# Altium footprint library PcbLib1.PcbLib: 13 footprints
Each footprint in its own frame and in the unit in brackets; x right, y up, seen from the top. Pads: shape width x height; smd on the part's side, far side on the other; paste and mask are expansions set on the pad; w line width, h text height; cw(c..) or ccw(c..) is an arc to the next point about the centre after c.
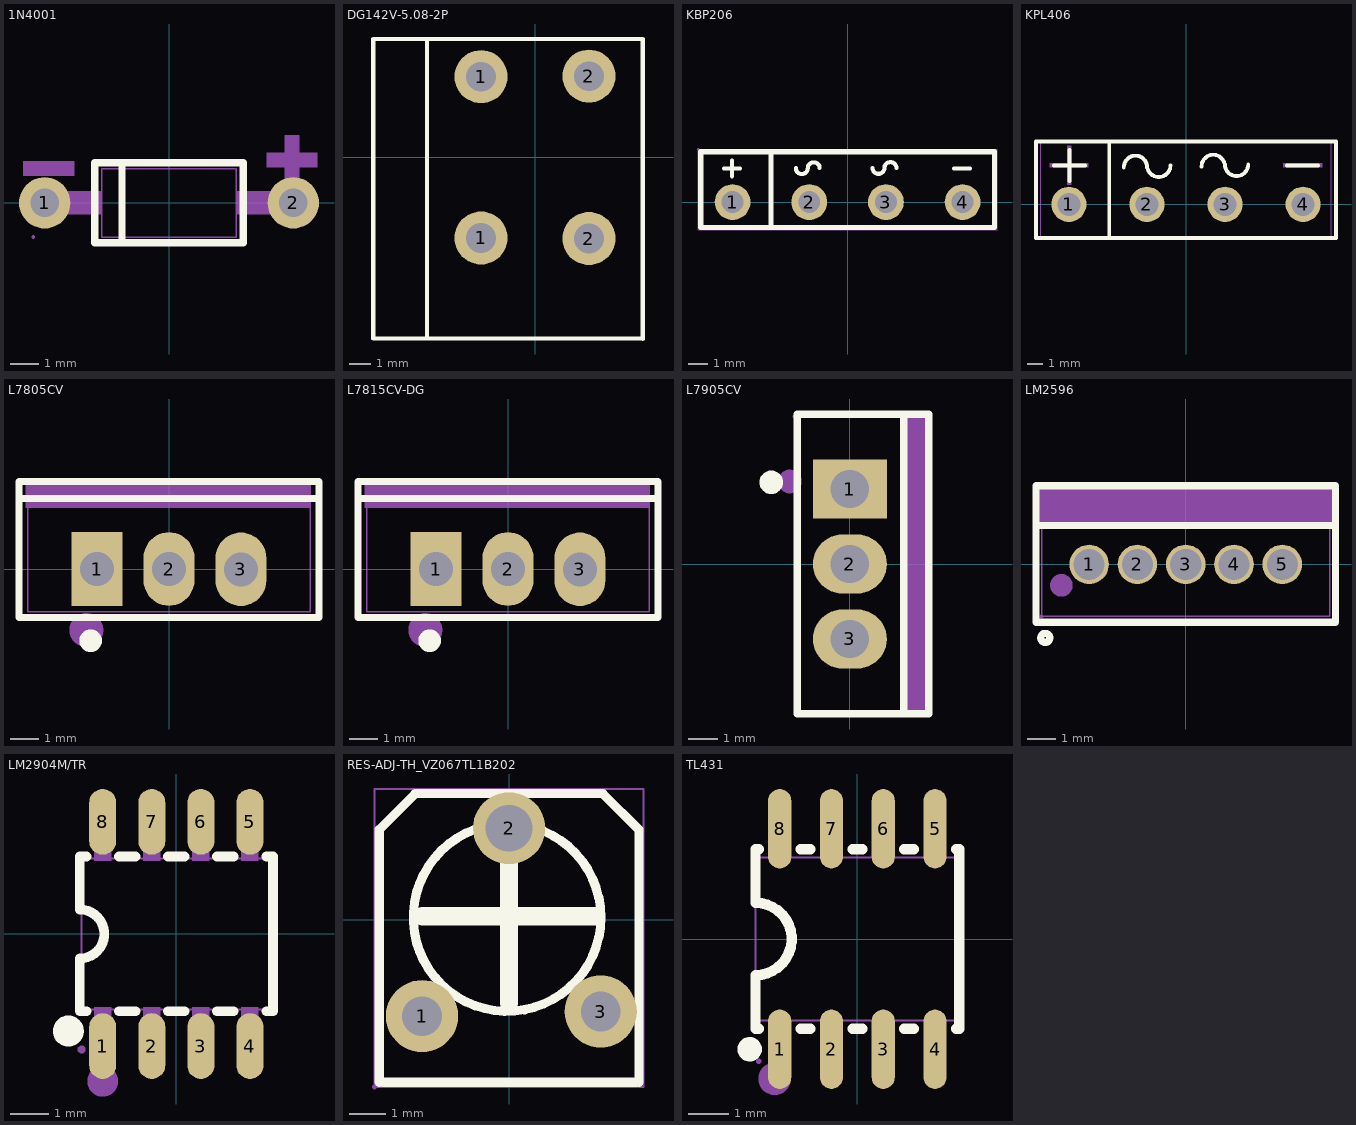
[diagram p0: the footprints below, top view; thin cyan lines are the x and y axes]

## 1N4001 [mm]
pads (2):
  round 1.8 hole 1 paste+0 mask+0.051: 1(-4.35,0) 2(4.35,0)
Top Overlay:
  lines w0.254: -1.641,-1.4 -1.641,1.4 ; -2.6,-1.4 -2.6,1.4 2.6,1.4 2.6,-1.4 -2.6,-1.4
Mechanical 6:
  region: -5.102,1.451 -3.324,1.451 -3.324,0.943 -5.102,0.943
  region: 4.045,0.593 4.045,2.371 4.553,2.371 4.553,0.593
  region: 3.415,1.759 5.193,1.759 5.193,1.251 3.415,1.251
Mechanical 15:
  region: -2.34,0.4 -2.34,-0.4 -4.75,-0.4 -4.75,0.4
  region: 2.34,-0.4 2.34,0.4 4.75,0.4 4.75,-0.4
  region: -3.95,0 -3.95,0.08 -4.011,0.227 -4.123,0.339 -4.27,0.4 -4.43,0.4 -4.577,0.339 -4.689,0.227 -4.75,0.08 -4.75,0 -4.75,-0.08 -4.689,-0.227 -4.577,-0.339 -4.43,-0.4 -4.27,-0.4 -4.123,-0.339 -4.011,-0.227 -3.95,-0.08
  region: 4.75,0 4.75,0.08 4.689,0.227 4.577,0.339 4.43,0.4 4.27,0.4 4.123,0.339 4.011,0.227 3.95,0.08 3.95,0 3.95,-0.08 4.011,-0.227 4.123,-0.339 4.27,-0.4 4.43,-0.4 4.577,-0.339 4.689,-0.227 4.75,-0.08
  region: -4.69,-1.2 -4.69,-1.175 -4.725,-1.14 -4.775,-1.14 -4.81,-1.175 -4.81,-1.2 -4.81,-1.225 -4.775,-1.26 -4.725,-1.26 -4.69,-1.225
  lines w0.051: -2.35,-1.2 2.35,-1.2 2.35,1.2 -2.35,1.2 -2.35,-1.2

## DG142V-5.08-2P [mm]
pads (4):
  round 2.5 hole 1.4: 1(-2.54,-3.797) 1(-2.54,3.797) 2(2.54,-3.823) 2(2.54,3.823)
Top Overlay:
  lines w0.2: -7.622,5.571 -7.622,-8.529 -5.113,-8.529 -5.082,-8.498 -5.082,5.571 ; -7.601,5.571 -5.082,5.571 ; 5.078,-8.555 5.078,5.545 ; 5.078,-8.529 -5.082,-8.529 -5.082,5.571 ; 5.078,5.571 -5.082,5.571

## KBP206 [mm]
pads (4):
  round 1.8 hole 1.1 paste+0 mask+0.051: 1(-5.775,0) 2(-1.925,0) 3(1.925,0) 4(5.775,0)
Top Overlay:
  lines w0.203: -6.2,1.7 -5.4,1.7 ; -5.8,1.3 -5.8,2.1 ; -2.601,1.709 ccw(c-2.3,1.709) -1.999,1.709 cw(c-1.699,1.696) -1.399,1.709 ; 1.25,1.709 ccw(c1.55,1.722) 1.849,1.709 cw(c2.15,1.709) 2.451,1.709 ; 5.35,1.7 6.15,1.7
  lines w0.254: -3.85,-1.27 -3.85,2.53 ; -7.375,-1.27 -7.375,2.53 7.375,2.53 7.375,-1.27 -7.375,-1.27
Mechanical 15:
  region: -5.325,0 -5.325,0.089 -5.393,0.255 -5.52,0.381 -5.685,0.45 -5.864,0.45 -6.03,0.381 -6.156,0.255 -6.225,0.089 -6.225,0 -6.225,-0.09 -6.156,-0.255 -6.03,-0.382 -5.864,-0.45 -5.685,-0.45 -5.52,-0.382 -5.393,-0.255 -5.325,-0.09
  region: -1.475,0 -1.475,0.089 -1.544,0.255 -1.67,0.381 -1.836,0.45 -2.015,0.45 -2.18,0.381 -2.307,0.255 -2.375,0.089 -2.375,0 -2.375,-0.09 -2.307,-0.255 -2.18,-0.382 -2.015,-0.45 -1.836,-0.45 -1.67,-0.382 -1.544,-0.255 -1.475,-0.09
  region: 6.225,0 6.225,0.089 6.156,0.255 6.03,0.381 5.865,0.45 5.685,0.45 5.52,0.381 5.394,0.255 5.325,0.089 5.325,0 5.325,-0.09 5.394,-0.255 5.52,-0.382 5.685,-0.45 5.865,-0.45 6.03,-0.382 6.156,-0.255 6.225,-0.09
  region: 2.375,0 2.375,0.089 2.307,0.255 2.18,0.381 2.015,0.45 1.836,0.45 1.67,0.381 1.544,0.255 1.475,0.089 1.475,0 1.475,-0.09 1.544,-0.255 1.67,-0.382 1.836,-0.45 2.015,-0.45 2.18,-0.382 2.307,-0.255 2.375,-0.09
  region: -7.442,2.657 -7.442,2.682 -7.477,2.717 -7.527,2.717 -7.562,2.682 -7.562,2.657 -7.562,2.632 -7.527,2.597 -7.477,2.597 -7.442,2.632
  lines w0.051: -7.502,-1.397 7.502,-1.397 7.502,2.657 -7.502,2.657 -7.502,-1.397

## KPL406 [mm]
pads (4):
  round 2.3 hole 1.5 paste+0 mask+0.051: 1(-7.65,0) 2(-2.55,0) 3(2.55,0) 4(7.65,0)
Top Overlay:
  lines w0.254: -8.636,2.54 -6.604,2.54 ; -7.62,1.524 -7.62,3.556 ; -5.016,-2.2 -5.016,4.1 ; -4.064,2.413 cw(c-3.302,2.413) -2.54,2.413 ; -2.54,2.54 ccw(c-1.778,2.54) -1.016,2.54 ; 1.016,2.476 cw(c1.778,2.476) 2.54,2.476 ; 2.54,2.603 ccw(c3.302,2.603) 4.064,2.603 ; 6.604,2.54 8.636,2.54 ; -9.8,-2.2 -9.8,4.1 9.8,4.1 9.8,-2.2 -9.8,-2.2
Mechanical 6:
  region: -7.764,1.291 -7.764,3.831 -7.51,3.831 -7.51,1.291
  region: -8.916,2.682 -6.376,2.682 -6.376,2.428 -8.916,2.428
  region: 6.35,2.667 8.89,2.667 8.89,2.413 6.35,2.413
Mechanical 15:
  region: -7.03,0 -7.03,0.123 -7.124,0.351 -7.299,0.526 -7.527,0.62 -7.773,0.62 -8.001,0.526 -8.176,0.351 -8.27,0.123 -8.27,0 -8.27,-0.123 -8.176,-0.351 -8.001,-0.526 -7.773,-0.62 -7.527,-0.62 -7.299,-0.526 -7.124,-0.351 -7.03,-0.123
  region: -1.93,0 -1.93,0.123 -2.024,0.351 -2.199,0.526 -2.427,0.62 -2.673,0.62 -2.901,0.526 -3.076,0.351 -3.17,0.123 -3.17,0 -3.17,-0.123 -3.076,-0.351 -2.901,-0.526 -2.673,-0.62 -2.427,-0.62 -2.199,-0.526 -2.024,-0.351 -1.93,-0.123
  region: 3.17,0 3.17,0.123 3.076,0.351 2.901,0.526 2.673,0.62 2.427,0.62 2.199,0.526 2.024,0.351 1.93,0.123 1.93,0 1.93,-0.123 2.024,-0.351 2.199,-0.526 2.427,-0.62 2.673,-0.62 2.901,-0.526 3.076,-0.351 3.17,-0.123
  region: 8.27,0 8.27,0.123 8.176,0.351 8.001,0.526 7.773,0.62 7.527,0.62 7.299,0.526 7.124,0.351 7.03,0.123 7.03,0 7.03,-0.123 7.124,-0.351 7.299,-0.526 7.527,-0.62 7.773,-0.62 8.001,-0.526 8.176,-0.351 8.27,-0.123
  region: -9.44,-2.1 -9.44,-2.075 -9.475,-2.04 -9.525,-2.04 -9.56,-2.075 -9.56,-2.1 -9.56,-2.125 -9.525,-2.16 -9.475,-2.16 -9.44,-2.125
  lines w0.051: -9.5,-2.1 -9.5,4.2 9.5,4.2 9.5,-2.1 -9.5,-2.1

## L7805CV [mm]
pads (3):
  rect 1.8x2.6 hole 1.2 paste+0 mask+0.051: 1(-2.54,0.005)
  oval 1.8x2.6 hole 1.2 paste+0 mask+0.051: 2(0,0.005)
  oval 1.8x2.6 hole 1.2 copper offset 0,0 paste+0 mask+0.051: 3(2.54,-0.005)
Top Overlay:
  lines w0.254: -5.3,2.495 5.3,2.495 ; -5.301,-1.704 -5.301,3.089 -5.301,3.094 5.301,3.094 5.301,-1.704 -5.301,-1.704
  lines w0.4: -2.77,-2.33 ccw(c-2.769,-2.53) -2.768,-2.33
Mechanical 6:
  circle w0.6: c-2.921,-2.154 r0.3
  region: -5.06,3.01 -5.06,2.17 4.99,2.17 4.99,3.01
Mechanical 15:
  region: 2.19,-0.33 2.19,0.32 2.89,0.32 2.89,-0.33
  region: -0.35,-0.32 -0.35,0.33 0.35,0.33 0.35,-0.32
  region: -2.89,-0.32 -2.89,0.33 -2.19,0.33 -2.19,-0.32
  region: -4.94,3 -4.94,3.025 -4.975,3.06 -5.025,3.06 -5.06,3.025 -5.06,3 -5.06,2.975 -5.025,2.94 -4.975,2.94 -4.94,2.975
  lines w0.051: -5,-1.5 5,-1.5 5,3 -5,3 -5,-1.5

## L7815CV-DG [mm]
pads (3):
  rect 1.8x2.6 hole 1.2 paste+0 mask+0.051: 1(-2.54,0.005)
  oval 1.8x2.6 hole 1.2 paste+0 mask+0.051: 2(0,0.005)
  oval 1.8x2.6 hole 1.2 copper offset 0,0 paste+0 mask+0.051: 3(2.54,-0.005)
Top Overlay:
  lines w0.254: -5.3,2.495 5.3,2.495 ; -5.301,-1.704 5.301,-1.704 5.301,3.094 -5.301,3.094 -5.301,3.089 -5.301,-1.704
  lines w0.4: -2.77,-2.33 ccw(c-2.769,-2.53) -2.768,-2.33
Mechanical 6:
  circle w0.6: c-2.921,-2.154 r0.3
  region: -5.06,3.01 -5.06,2.17 4.99,2.17 4.99,3.01
Mechanical 15:
  region: -4.94,3 -4.94,3.025 -4.975,3.06 -5.025,3.06 -5.06,3.025 -5.06,3 -5.06,2.975 -5.025,2.94 -4.975,2.94 -4.94,2.975
  region: -2.89,-0.32 -2.89,0.33 -2.19,0.33 -2.19,-0.32
  region: -0.35,-0.32 -0.35,0.33 0.35,0.33 0.35,-0.32
  region: 2.19,-0.33 2.19,0.32 2.89,0.32 2.89,-0.33
  lines w0.051: -5,-1.5 -5,3 5,3 5,-1.5 -5,-1.5

## L7905CV [mm]
pads (3):
  rect 2.5x2 hole 1.3 paste+0 mask+0.051: 1(0,2.54)
  oval 2.5x2 hole 1.3 paste+0 mask+0.051: 2(0,0) 3(0,-2.54)
Top Overlay:
  lines w0.254: 1.83,-5.08 1.83,5.08 ; -1.778,-5.08 -1.778,5.08 2.667,5.08 2.667,-5.08 -1.778,-5.08
  lines w0.4: -2.464,2.766 cw(c-2.664,2.767) -2.464,2.769
Mechanical 6:
  circle w0.4: c-2.032,2.794 r0.2
  region: 1.778,5.08 2.667,5.08 2.667,-5.08 1.778,-5.08
Mechanical 15:
  region: -1.81,5 -1.81,5.025 -1.845,5.06 -1.895,5.06 -1.93,5.025 -1.93,5 -1.93,4.975 -1.895,4.94 -1.845,4.94 -1.81,4.975
  region: 0.3,2.17 -0.3,2.17 -0.3,2.91 0.3,2.91
  region: 0.3,-0.37 -0.3,-0.37 -0.3,0.37 0.3,0.37
  region: 0.3,-2.91 -0.3,-2.91 -0.3,-2.17 0.3,-2.17
  lines w0.051: -1.87,-5 -1.87,5 2.63,5 2.63,-5 -1.87,-5

## LM2596 [mm]
pads (5):
  round 1.4 hole 1.1 paste+0 mask+0.051: 1(-3.42,0) 2(-1.71,0) 3(0,0) 4(1.71,0) 5(3.42,0)
Top Overlay:
  circle w0.254: c-4.97,-2.6 r0.16
  lines w0.258: -5.3,1.38 5.3,1.38 ; -5.3,-2.05 -5.3,2.78 5.3,2.78 5.3,-2.05 -5.3,-2.05
Mechanical 6:
  circle w0.4: c-4.4,-0.74 r0.2
  region: -5.24,2.79 5.3,2.79 5.31,2.78 5.31,1.43 5.32,1.42 -5.24,1.42 -5.25,1.41
Mechanical 15:
  region: -2.975,-0.25 -3.865,-0.25 -3.865,0.25 -2.975,0.25
  region: -1.265,-0.25 -2.155,-0.25 -2.155,0.25 -1.265,0.25
  region: 0.445,-0.25 -0.445,-0.25 -0.445,0.25 0.445,0.25
  region: 2.155,-0.25 1.265,-0.25 1.265,0.25 2.155,0.25
  region: 3.865,-0.25 2.975,-0.25 2.975,0.25 3.865,0.25
  region: -5.04,-1.84 -5.04,-1.815 -5.075,-1.78 -5.125,-1.78 -5.16,-1.815 -5.16,-1.84 -5.16,-1.865 -5.125,-1.9 -5.075,-1.9 -5.04,-1.865
  lines w0.051: -5.1,-1.84 -5.1,2.66 5.1,2.66 5.1,-1.84 -5.1,-1.84

## LM2904M/TR [mm]
pads (8):
  oval 0.7x1.7 smd paste+0 mask+0.051: 1(-1.905,-2.9) 2(-0.635,-2.9) 3(0.635,-2.9) 4(1.905,-2.9) 5(1.905,2.9) 6(0.635,2.9) 7(-0.635,2.9) 8(-1.905,2.9)
Top Overlay:
  lines w0.254: -2.326,-2 -2.5,-2 -2.5,-0.635 ccw(c-2.5,0) -2.499,0.635 -2.5,2 -2.326,2 ; -1.484,-2 -1.056,-2 ; -1.484,2 -1.056,2 ; -0.214,-2 0.214,-2 ; -0.214,2 0.214,2 ; 1.056,-2 1.484,-2 ; 1.056,2 1.484,2 ; 2.326,-2 2.5,-2 2.5,2 2.326,2
  lines w0.4: -2.794,-2.311 ccw(c-2.793,-2.511) -2.791,-2.311
Mechanical 6:
  circle w0.4: c-1.905,-3.81 r0.2
Mechanical 15:
  region: -2.125,-2.99 -2.125,-2.265 -1.685,-2.265 -1.685,-2.99
  region: -2.125,-2.315 -2.125,-1.9 -1.685,-1.9 -1.685,-2.315
  region: -0.855,-2.99 -0.855,-2.265 -0.415,-2.265 -0.415,-2.99
  region: -0.855,-2.315 -0.855,-1.9 -0.415,-1.9 -0.415,-2.315
  region: 0.415,-2.99 0.415,-2.265 0.855,-2.265 0.855,-2.99
  region: 0.415,-2.315 0.415,-1.9 0.855,-1.9 0.855,-2.315
  region: 1.685,-2.99 1.685,-2.265 2.125,-2.265 2.125,-2.99
  region: 1.685,-2.315 1.685,-1.9 2.125,-1.9 2.125,-2.315
  region: -2.125,2.265 -2.125,2.99 -1.685,2.99 -1.685,2.265
  region: -2.125,1.9 -2.125,2.315 -1.685,2.315 -1.685,1.9
  region: -0.855,2.265 -0.855,2.99 -0.415,2.99 -0.415,2.265
  region: -0.855,1.9 -0.855,2.315 -0.415,2.315 -0.415,1.9
  region: 0.415,2.265 0.415,2.99 0.855,2.99 0.855,2.265
  region: 0.415,1.9 0.415,2.315 0.855,2.315 0.855,1.9
  region: 1.685,2.265 1.685,2.99 2.125,2.99 2.125,2.265
  region: 1.685,1.9 1.685,2.315 2.125,2.315 2.125,1.9
  region: -2.35,-2.99 -2.35,-2.949 -2.409,-2.89 -2.492,-2.89 -2.55,-2.949 -2.55,-2.99 -2.55,-3.032 -2.492,-3.09 -2.409,-3.09 -2.35,-3.032
  lines w0.051: -2.45,-1.95 2.45,-1.95 2.45,1.95 -2.45,1.95 -2.45,-1.95

## PCBComponent_1 [mm]

## PCBComponent_1 - duplicate [mm]

## RES-ADJ-TH_VZ067TL1B202 [mm]
pads (3):
  round 2 hole 1.1 paste+0 mask+0.051: 1(-2.413,-2.667) 3(2.54,-2.54)
  round 2 hole 1.3 paste+0 mask+0.051: 2(0,2.54)
Top Overlay:
  circle w0.254: c-0.055,0.066 r2.6
  lines w0.254: -3.6,-4.5 -3.6,-0.5 ; -3.599,-0.5 -3.6,2.5 -2.6,3.5 -2.4,3.5 0,3.5 2.4,3.5 ; -3.5,-4.5 0,-4.5 3.5,-4.5 ; 2.2,3.5 2.6,3.5 3.6,2.5 3.599,-0.5 ; 3.6,-4.5 3.6,-0.5
  lines w0.5: -2.4,0.1 2.4,0.1 ; 0,-2.3 0,2.5
Mechanical 15:
  region: 2.99,-2.54 2.99,-2.45 2.922,-2.285 2.795,-2.158 2.63,-2.09 2.45,-2.09 2.285,-2.158 2.158,-2.285 2.09,-2.45 2.09,-2.54 2.09,-2.63 2.158,-2.795 2.285,-2.922 2.45,-2.99 2.63,-2.99 2.795,-2.922 2.922,-2.795 2.99,-2.63
  region: 0.55,2.54 0.55,2.649 0.466,2.852 0.312,3.006 0.109,3.09 -0.109,3.09 -0.312,3.006 -0.466,2.852 -0.55,2.649 -0.55,2.54 -0.55,2.431 -0.466,2.228 -0.312,2.074 -0.109,1.99 0.109,1.99 0.312,2.074 0.466,2.228 0.55,2.431
  region: -2.09,-2.54 -2.09,-2.45 -2.158,-2.285 -2.285,-2.158 -2.45,-2.09 -2.63,-2.09 -2.795,-2.158 -2.922,-2.285 -2.99,-2.45 -2.99,-2.54 -2.99,-2.63 -2.922,-2.795 -2.795,-2.922 -2.63,-2.99 -2.45,-2.99 -2.285,-2.922 -2.158,-2.795 -2.09,-2.63
  region: -3.667,-4.627 -3.667,-4.602 -3.702,-4.567 -3.752,-4.567 -3.787,-4.602 -3.787,-4.627 -3.787,-4.652 -3.752,-4.687 -3.702,-4.687 -3.667,-4.652
  lines w0.051: -3.727,-4.627 -3.727,3.627 3.727,3.627 3.727,-4.627 -3.727,-4.627

## TL431 [mil]
pads (8):
  oval 22.38x76.78 smd paste+0 mask+2: 1(-75,-106.5) 2(-25,-106.5) 3(25,-106.5) 4(75,-106.5) 5(75,106.5) 6(25,106.5) 7(-25,106.5) 8(-75,106.5)
Top Overlay:
  circle w11.81: c-104,-106.5 r5.91
  lines w10: -95.29,-86.61 -98.42,-86.61 -98.42,-35 ccw(c-98.41,0) -98.4,35 -98.42,86.62 -95.29,86.62 ; -54.71,-86.61 -45.29,-86.61 ; -54.71,86.62 -45.29,86.62 ; -4.71,-86.61 4.71,-86.61 ; -4.71,86.62 4.71,86.62 ; 45.29,-86.61 54.71,-86.61 ; 45.29,86.62 54.71,86.62 ; 95.29,-86.61 98.43,-86.61 98.43,86.62 95.29,86.62
Mechanical 6:
  circle w15.75: c-80,-135 r7.87
Mechanical 15:
  region: 66.93,76.38 66.93,85.63 83.07,85.63 83.07,76.38
  region: 66.93,85.24 66.93,118.11 83.07,118.11 83.07,85.24
  region: 16.93,76.38 16.93,85.63 33.07,85.63 33.07,76.38
  region: 16.93,85.24 16.93,118.11 33.07,118.11 33.07,85.24
  region: -33.07,76.38 -33.07,85.63 -16.93,85.63 -16.93,76.38
  region: -33.07,85.24 -33.07,118.11 -16.93,118.11 -16.93,85.24
  region: -83.07,76.38 -83.07,85.63 -66.93,85.63 -66.93,76.38
  region: -83.07,85.24 -83.07,118.11 -66.93,118.11 -66.93,85.24
  region: 66.93,-85.63 66.93,-76.37 83.07,-76.37 83.07,-85.63
  region: 66.93,-118.11 66.93,-85.23 83.07,-85.23 83.07,-118.11
  region: 16.93,-85.63 16.93,-76.37 33.07,-76.37 33.07,-85.63
  region: 16.93,-118.11 16.93,-85.23 33.07,-85.23 33.07,-118.11
  region: -33.07,-85.63 -33.07,-76.37 -16.93,-76.37 -16.93,-85.63
  region: -33.07,-118.11 -33.07,-85.23 -16.93,-85.23 -16.93,-118.11
  region: -83.07,-85.63 -83.07,-76.37 -66.93,-76.37 -66.93,-85.63
  region: -83.07,-118.11 -83.07,-85.23 -66.93,-85.23 -66.93,-118.11
  region: -92.92,-118.11 -92.92,-117.13 -94.3,-115.75 -96.26,-115.75 -97.64,-117.13 -97.64,-118.11 -97.64,-119.09 -96.26,-120.47 -94.3,-120.47 -92.92,-119.09
  lines w2: -98.42,-78.74 98.42,-78.74 98.42,78.74 -98.42,78.74 -98.42,-78.74